# Altium schematic symbol library HC-SR04.SchLib: 1 symbol
Pins are listed as number, name and electrical type; pins without a type are passive.

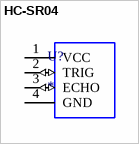
[diagram p0: symbol HC-SR04]

## HC-SR04
designator U?
Ultrasonic Sensor Module; MP: HC-SR04; Value: *; Availability: Unavailable; Price: None; Package: None
footprint XCVR_HC-SR04
pins: 1 VCC (power), 2 TRIG (io), 3 ECHO (io), 4 GND (power)